# EAGLE library part IXP425 (library micro-intel)
Intel XScale® Core Source: ftp://download.intel.com/design/network/datashts/25247904.pdf
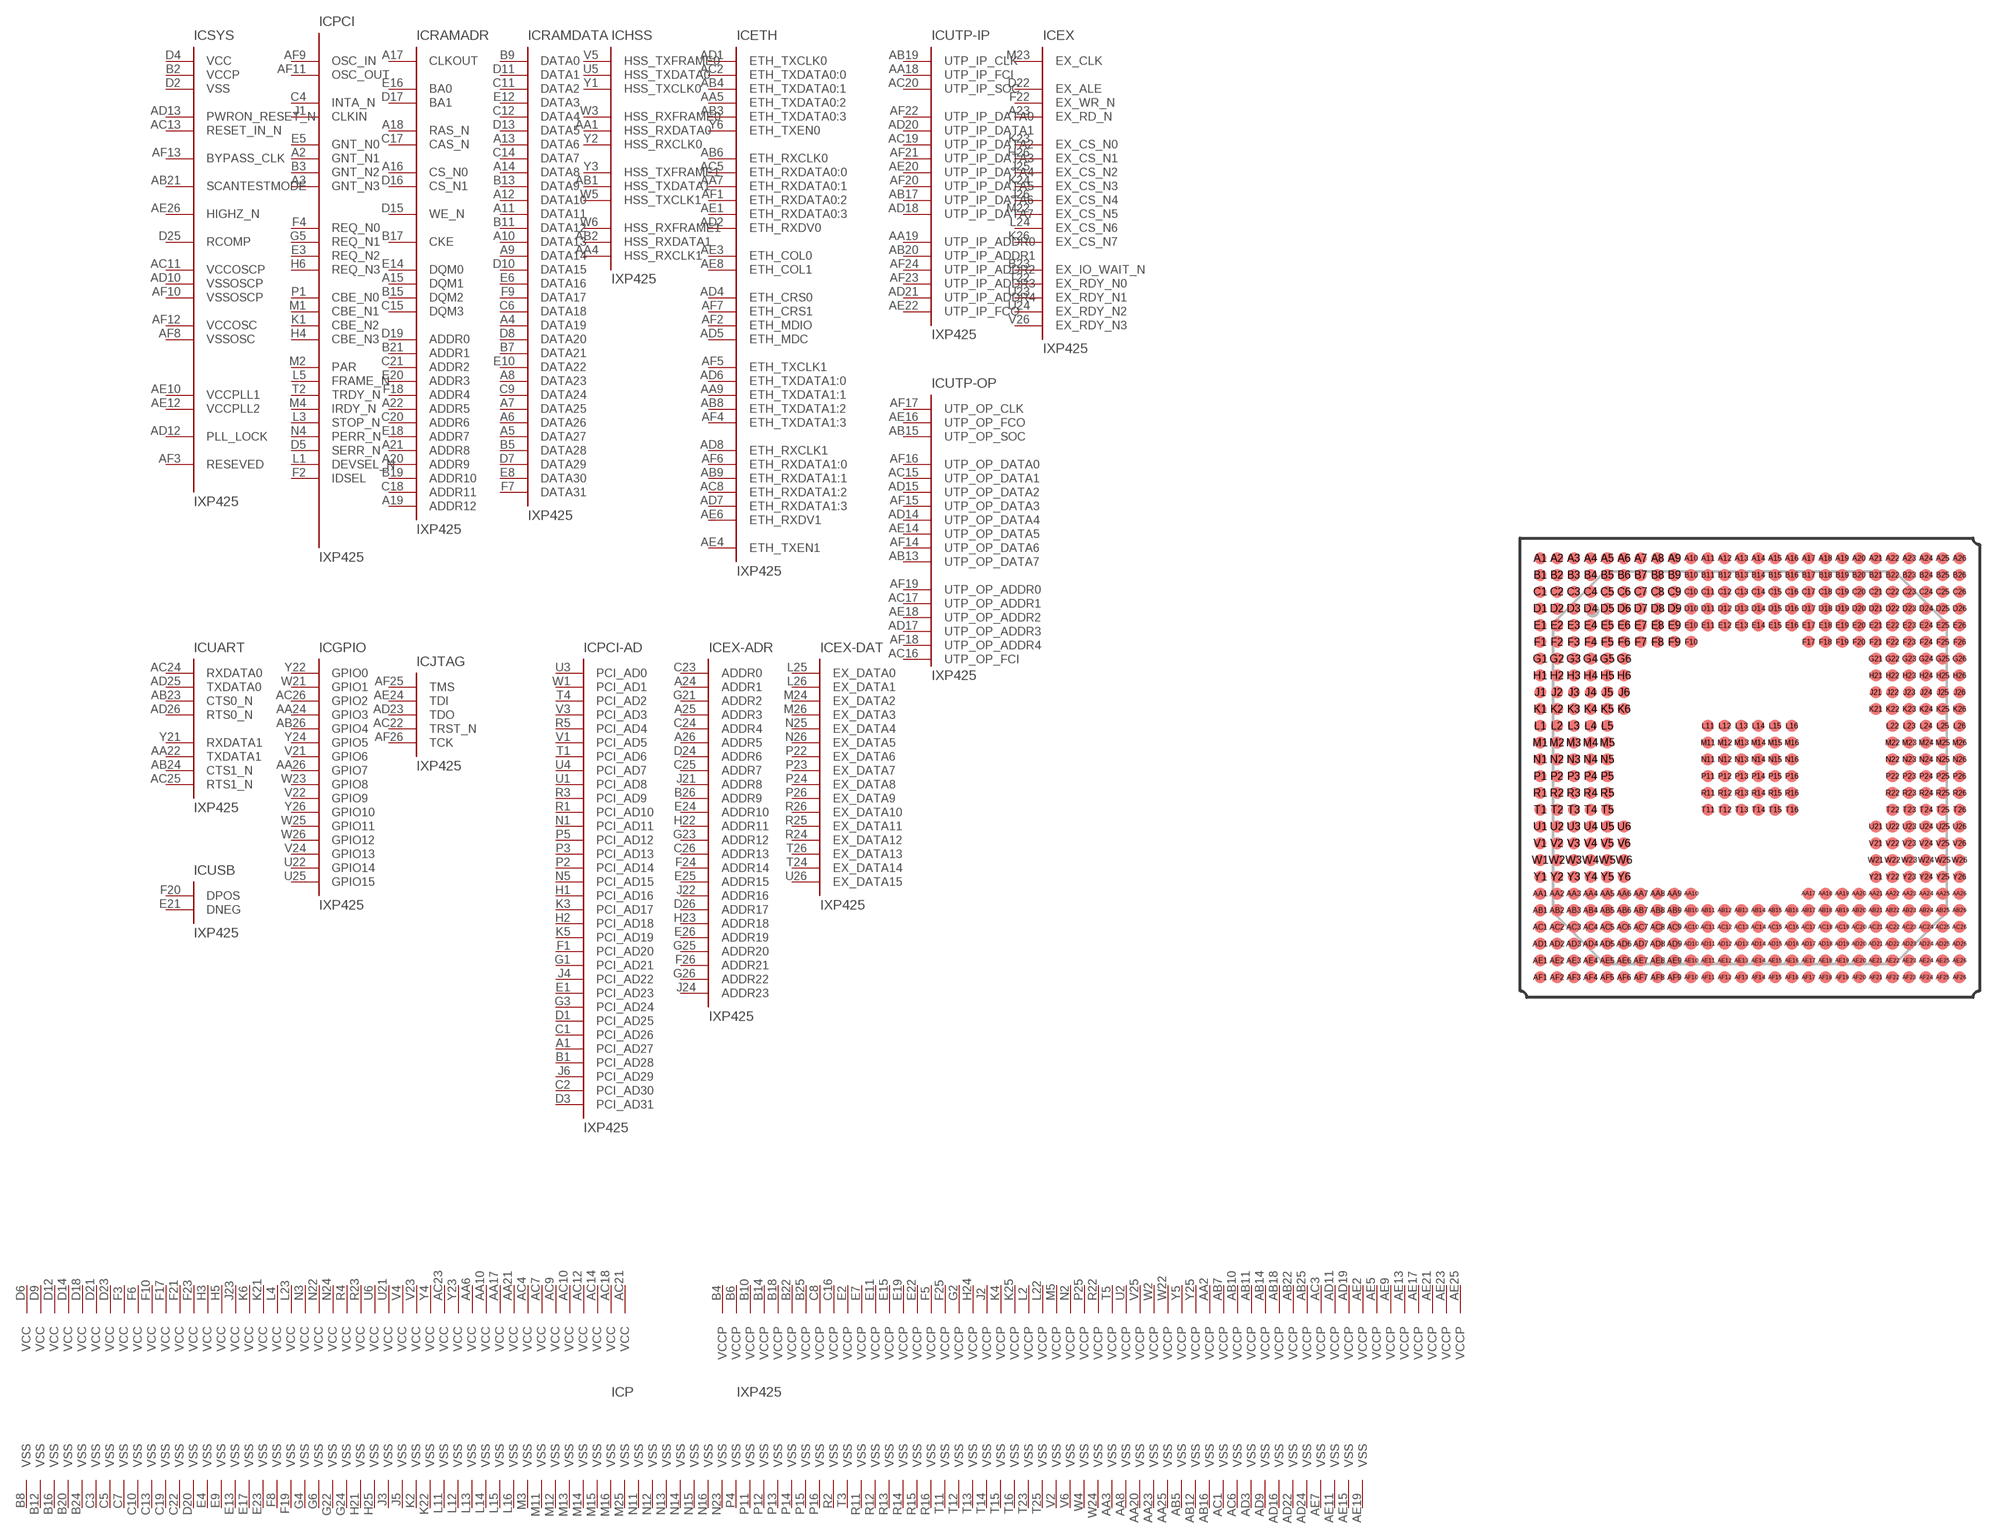
[diagram p70: symbol with the pads of PBGA492; footprint PBGA492]

Designator prefix IC; gates SYS=IXP-SYS PCI=IXP-PCI RAMADR=IXP-SDM-ADDR HSS=IXP-HSS ETH=IXP-ETH UTP-IP=IXP-UTP-IP UTP-OP=IXP-UTP-OP EX=IXP-EX UART=IXP-UART USB=IXP-USB GPIO=IXP-GPIO JTAG=IXP-JTAG PCI-AD=IXP-PCI-AD EX-ADR=IXP-EX-ADDR EX-DAT=IXP-EX-DATA RAMDATA=IXP-SDM-DATA P=IXP-PWR

## IXP425 (OC_FARNELL: unknown; OC_NEWARK: unknown)  [PBGA492]
A1  PCI-AD:PCI_AD27
A2  PCI:GNT_N1  out
A3  PCI:GNT_N3  out
A4  RAMDATA:DATA19
A5  RAMDATA:DATA27
A6  RAMDATA:DATA26
A7  RAMDATA:DATA25
A8  RAMDATA:DATA23
A9  RAMDATA:DATA14
A10  RAMDATA:DATA13
A11  RAMDATA:DATA11
A12  RAMDATA:DATA10
A13  RAMDATA:DATA6
A14  RAMDATA:DATA8
A15  RAMADR:DQM1
A16  RAMADR:CS_N0  out
A17  RAMADR:CLKOUT  out
A18  RAMADR:RAS_N  out
A19  RAMADR:ADDR12  out
A20  RAMADR:ADDR9  out
A21  RAMADR:ADDR8  out
A22  RAMADR:ADDR5  out
A23  EX:EX_RD_N  out
A24  EX-ADR:ADDR1
A25  EX-ADR:ADDR3
A26  EX-ADR:ADDR5
AA1  HSS:HSS_RXDATA0  in
AA2  P:VCCP  pwr
AA3  P:VSS  pwr
AA4  HSS:HSS_RXCLK1
AA5  ETH:ETH_TXDATA0:2  out
AA6  P:VCC  pwr
AA7  ETH:ETH_RXDATA0:1  in
AA8  P:VSS  pwr
AA9  ETH:ETH_TXDATA1:1  out
AA10  P:VCC  pwr
AA17  P:VCC  pwr
AA18  UTP-IP:UTP_IP_FCI  in
AA19  UTP-IP:UTP_IP_ADDR0  out
AA20  P:VSS  pwr
AA21  P:VCC  pwr
AA22  UART:TXDATA1  out
AA23  P:VSS  pwr
AA24  GPIO:GPIO3
AA25  P:VSS  pwr
AA26  GPIO:GPIO7
AB1  HSS:HSS_TXDATA1  out
AB2  HSS:HSS_RXDATA1  in
AB3  ETH:ETH_TXDATA0:3  out
AB4  ETH:ETH_TXDATA0:1  out
AB5  P:VSS  pwr
AB6  ETH:ETH_RXCLK0  in
AB7  P:VCCP  pwr
AB8  ETH:ETH_TXDATA1:2  out
AB9  ETH:ETH_RXDATA1:1  in
AB10  P:VCCP  pwr
AB11  P:VCCP  pwr
AB12  P:VSS  pwr
AB13  UTP-OP:UTP_OP_DATA7  out
AB14  P:VCCP  pwr
AB15  UTP-OP:UTP_OP_SOC  out
AB16  P:VSS  pwr
AB17  UTP-IP:UTP_IP_DATA6  in
AB18  P:VCCP  pwr
AB19  UTP-IP:UTP_IP_CLK  in
AB20  UTP-IP:UTP_IP_ADDR1  out
AB21  SYS:SCANTESTMODE  in
AB22  P:VCCP  pwr
AB23  UART:CTS0_N  in
AB24  UART:CTS1_N  in
AB25  P:VCCP  pwr
AB26  GPIO:GPIO4
AC1  P:VSS  pwr
AC2  ETH:ETH_TXDATA0:0  out
AC3  P:VCCP  pwr
AC4  P:VCC  pwr
AC5  ETH:ETH_RXDATA0:0  in
AC6  P:VSS  pwr
AC7  P:VCC  pwr
AC8  ETH:ETH_RXDATA1:2  in
AC9  P:VCC  pwr
AC10  P:VCC  pwr
AC11  SYS:VCCOSCP  pwr
AC12  P:VCC  pwr
AC13  SYS:RESET_IN_N  in
AC14  P:VCC  pwr
AC15  UTP-OP:UTP_OP_DATA1  out
AC16  UTP-OP:UTP_OP_FCI  in
AC17  UTP-OP:UTP_OP_ADDR1  out
AC18  P:VCC  pwr
AC19  UTP-IP:UTP_IP_DATA2  in
AC20  UTP-IP:UTP_IP_SOC  in
AC21  P:VCC  pwr
AC22  JTAG:TRST_N  in
AC23  P:VCC  pwr
AC24  UART:RXDATA0  in
AC25  UART:RTS1_N  out
AC26  GPIO:GPIO2
AD1  ETH:ETH_TXCLK0  in
AD2  ETH:ETH_RXDV0  in
AD3  P:VSS  pwr
AD4  ETH:ETH_CRS0  in
AD5  ETH:ETH_MDC  out
AD6  ETH:ETH_TXDATA1:0  out
AD7  ETH:ETH_RXDATA1:3  in
AD8  ETH:ETH_RXCLK1  in
AD9  P:VSS  pwr
AD10  SYS:VSSOSCP  pwr
AD11  P:VCCP  pwr
AD12  SYS:PLL_LOCK  out
AD13  SYS:PWRON_RESET_N  in
AD14  UTP-OP:UTP_OP_DATA4  out
AD15  UTP-OP:UTP_OP_DATA2  out
AD16  P:VSS  pwr
AD17  UTP-OP:UTP_OP_ADDR3  out
AD18  UTP-IP:UTP_IP_DATA7  in
AD19  P:VCCP  pwr
AD20  UTP-IP:UTP_IP_DATA1  in
AD21  UTP-IP:UTP_IP_ADDR4  out
AD22  P:VSS  pwr
AD23  JTAG:TDO  out
AD24  P:VSS  pwr
AD25  UART:TXDATA0  out
AD26  UART:RTS0_N  out
AE1  ETH:ETH_RXDATA0:3  in
AE2  P:VCCP  pwr
AE3  ETH:ETH_COL0
AE4  ETH:ETH_TXEN1
AE5  P:VCCP  pwr
AE6  ETH:ETH_RXDV1
AE7  P:VSS  pwr
AE8  ETH:ETH_COL1
AE9  P:VCCP  pwr
AE10  SYS:VCCPLL1  pwr
AE11  P:VSS  pwr
AE12  SYS:VCCPLL2  pwr
AE13  P:VCCP  pwr
AE14  UTP-OP:UTP_OP_DATA5  out
AE15  P:VSS  pwr
AE16  UTP-OP:UTP_OP_FCO  out
AE17  P:VCCP  pwr
AE18  UTP-OP:UTP_OP_ADDR2  out
AE19  P:VSS  pwr
AE20  UTP-IP:UTP_IP_DATA4  in
AE21  P:VCCP  pwr
AE22  UTP-IP:UTP_IP_FCO  out
AE23  P:VCCP  pwr
AE24  JTAG:TDI  in
AE25  P:VCCP  pwr
AE26  SYS:HIGHZ_N  in
AF1  ETH:ETH_RXDATA0:2  in
AF2  ETH:ETH_MDIO
AF3  SYS:RESEVED  nc
AF4  ETH:ETH_TXDATA1:3  out
AF5  ETH:ETH_TXCLK1  out
AF6  ETH:ETH_RXDATA1:0  in
AF7  ETH:ETH_CRS1  in
AF8  SYS:VSSOSC  pwr
AF9  PCI:OSC_IN  in
AF10  SYS:VSSOSCP  pwr
AF11  PCI:OSC_OUT  out
AF12  SYS:VCCOSC  pwr
AF13  SYS:BYPASS_CLK  in
AF14  UTP-OP:UTP_OP_DATA6  out
AF15  UTP-OP:UTP_OP_DATA3  out
AF16  UTP-OP:UTP_OP_DATA0  out
AF17  UTP-OP:UTP_OP_CLK  in
AF18  UTP-OP:UTP_OP_ADDR4  out
AF19  UTP-OP:UTP_OP_ADDR0  out
AF20  UTP-IP:UTP_IP_DATA5  in
AF21  UTP-IP:UTP_IP_DATA3  in
AF22  UTP-IP:UTP_IP_DATA0  in
AF23  UTP-IP:UTP_IP_ADDR3  out
AF24  UTP-IP:UTP_IP_ADDR2  out
AF25  JTAG:TMS  in
AF26  JTAG:TCK  in
B1  PCI-AD:PCI_AD28
B2  SYS:VCCP  pwr
B3  PCI:GNT_N2  out
B4  P:VCCP  pwr
B5  RAMDATA:DATA28
B6  P:VCCP  pwr
B7  RAMDATA:DATA21
B8  P:VSS  pwr
B9  RAMDATA:DATA0
B10  P:VCCP  pwr
B11  RAMDATA:DATA12
B12  P:VSS  pwr
B13  RAMDATA:DATA9
B14  P:VCCP  pwr
B15  RAMADR:DQM2
B16  P:VSS  pwr
B17  RAMADR:CKE  out
B18  P:VCCP  pwr
B19  RAMADR:ADDR10  out
B20  P:VSS  pwr
B21  RAMADR:ADDR1  out
B22  P:VCCP  pwr
B23  EX:EX_IO_WAIT_N  in
B24  P:VSS  pwr
B25  P:VCCP  pwr
B26  EX-ADR:ADDR9
C1  PCI-AD:PCI_AD26
C2  PCI-AD:PCI_AD30
C3  P:VSS  pwr
C4  PCI:INTA_N  out
C5  P:VSS  pwr
C6  RAMDATA:DATA18
C7  P:VSS  pwr
C8  P:VCCP  pwr
C9  RAMDATA:DATA24
C10  P:VSS  pwr
C11  RAMDATA:DATA2
C12  RAMDATA:DATA4
C13  P:VSS  pwr
C14  RAMDATA:DATA7
C15  RAMADR:DQM3
C16  P:VCCP  pwr
C17  RAMADR:CAS_N  out
C18  RAMADR:ADDR11  out
C19  P:VSS  pwr
C20  RAMADR:ADDR6  out
C21  RAMADR:ADDR2  out
C22  P:VSS  pwr
C23  EX-ADR:ADDR0
C24  EX-ADR:ADDR4
C25  EX-ADR:ADDR7
C26  EX-ADR:ADDR13
D1  PCI-AD:PCI_AD25
D2  SYS:VSS  pwr
D3  PCI-AD:PCI_AD31
D4  SYS:VCC  pwr
D5  PCI:SERR_N
D6  P:VCC  pwr
D7  RAMDATA:DATA29
D8  RAMDATA:DATA20
D9  P:VCC  pwr
D10  RAMDATA:DATA15
D11  RAMDATA:DATA1
D12  P:VCC  pwr
D13  RAMDATA:DATA5
D14  P:VCC  pwr
D15  RAMADR:WE_N  out
D16  RAMADR:CS_N1  out
D17  RAMADR:BA1  out
D18  P:VCC  pwr
D19  RAMADR:ADDR0  out
D20  P:VSS  pwr
D21  P:VCC  pwr
D22  EX:EX_ALE  out
D23  P:VCC  pwr
D24  EX-ADR:ADDR6
D25  SYS:RCOMP  in
D26  EX-ADR:ADDR17
E1  PCI-AD:PCI_AD23
E2  P:VCCP  pwr
E3  PCI:REQ_N2  in
E4  P:VSS  pwr
E5  PCI:GNT_N0
E6  RAMDATA:DATA16
E7  P:VCCP  pwr
E8  RAMDATA:DATA30
E9  P:VSS  pwr
E10  RAMDATA:DATA22
E11  P:VCCP  pwr
E12  RAMDATA:DATA3
E13  P:VSS  pwr
E14  RAMADR:DQM0
E15  P:VCCP  pwr
E16  RAMADR:BA0  out
E17  P:VSS  pwr
E18  RAMADR:ADDR7  out
E19  P:VCCP  pwr
E20  RAMADR:ADDR3  out
E21  USB:DNEG
E22  P:VCCP  pwr
E23  P:VSS  pwr
E24  EX-ADR:ADDR10
E25  EX-ADR:ADDR15
E26  EX-ADR:ADDR19
F1  PCI-AD:PCI_AD20
F2  PCI:IDSEL  in
F3  P:VCC  pwr
F4  PCI:REQ_N0
F5  P:VCCP  pwr
F6  P:VCC  pwr
F7  RAMDATA:DATA31
F8  P:VSS  pwr
F9  RAMDATA:DATA17
F10  P:VCC  pwr
F17  P:VCC  pwr
F18  RAMADR:ADDR4  out
F19  P:VSS  pwr
F20  USB:DPOS
F21  P:VCC  pwr
F22  EX:EX_WR_N  out
F23  P:VCC  pwr
F24  EX-ADR:ADDR14
F25  P:VCCP  pwr
F26  EX-ADR:ADDR21
G1  PCI-AD:PCI_AD21
G2  P:VCCP  pwr
G3  PCI-AD:PCI_AD24
G4  P:VSS  pwr
G5  PCI:REQ_N1  in
G6  P:VSS  pwr
G21  EX-ADR:ADDR2
G22  P:VSS  pwr
G23  EX-ADR:ADDR12
G24  P:VSS  pwr
G25  EX-ADR:ADDR20
G26  EX-ADR:ADDR22
H1  PCI-AD:PCI_AD16
H2  PCI-AD:PCI_AD18
H3  P:VCC  pwr
H4  PCI:CBE_N3
H5  P:VCC  pwr
H6  PCI:REQ_N3  in
H21  P:VSS  pwr
H22  EX-ADR:ADDR11
H23  EX-ADR:ADDR18
H24  P:VCCP  pwr
H25  P:VSS  pwr
H26  EX:EX_CS_N1  out
J1  PCI:CLKIN  in
J2  P:VCCP  pwr
J3  P:VSS  pwr
J4  PCI-AD:PCI_AD22
J5  P:VSS  pwr
J6  PCI-AD:PCI_AD29
J21  EX-ADR:ADDR8
J22  EX-ADR:ADDR16
J23  P:VCC  pwr
J24  EX-ADR:ADDR23
J25  EX:EX_CS_N2  out
J26  EX:EX_CS_N4  out
K1  PCI:CBE_N2
K2  P:VSS  pwr
K3  PCI-AD:PCI_AD17
K4  P:VCCP  pwr
K5  PCI-AD:PCI_AD19
K6  P:VCC  pwr
K21  P:VCC  pwr
K22  P:VSS  pwr
K23  EX:EX_CS_N0  out
K24  EX:EX_CS_N3  out
K25  P:VCCP  pwr
K26  EX:EX_CS_N7  out
L1  PCI:DEVSEL_N
L2  P:VCCP  pwr
L3  PCI:STOP_N
L4  P:VCC  pwr
L5  PCI:FRAME_N
L11  P:VSS  pwr
L12  P:VSS  pwr
L13  P:VSS  pwr
L14  P:VSS  pwr
L15  P:VSS  pwr
L16  P:VSS  pwr
L22  P:VCCP  pwr
L23  P:VCC  pwr
L24  EX:EX_CS_N6  out
L25  EX-DAT:EX_DATA0
L26  EX-DAT:EX_DATA1
M1  PCI:CBE_N1
M2  PCI:PAR
M3  P:VSS  pwr
M4  PCI:IRDY_N
M5  P:VCCP  pwr
M11  P:VSS  pwr
M12  P:VSS  pwr
M13  P:VSS  pwr
M14  P:VSS  pwr
M15  P:VSS  pwr
M16  P:VSS  pwr
M22  EX:EX_CS_N5  out
M23  EX:EX_CLK  in
M24  EX-DAT:EX_DATA2
M25  P:VSS  pwr
M26  EX-DAT:EX_DATA3
N1  PCI-AD:PCI_AD11
N2  P:VCCP  pwr
N3  P:VCC  pwr
N4  PCI:PERR_N
N5  PCI-AD:PCI_AD15
N11  P:VSS  pwr
N12  P:VSS  pwr
N13  P:VSS  pwr
N14  P:VSS  pwr
N15  P:VSS  pwr
N16  P:VSS  pwr
N22  P:VCC  pwr
N23  P:VSS  pwr
N24  P:VCC  pwr
N25  EX-DAT:EX_DATA4
N26  EX-DAT:EX_DATA5
P1  PCI:CBE_N0
P2  PCI-AD:PCI_AD14
P3  PCI-AD:PCI_AD13
P4  P:VSS  pwr
P5  PCI-AD:PCI_AD12
P11  P:VSS  pwr
P12  P:VSS  pwr
P13  P:VSS  pwr
P14  P:VSS  pwr
P15  P:VSS  pwr
P16  P:VSS  pwr
P22  EX-DAT:EX_DATA6
P23  EX-DAT:EX_DATA7
P24  EX-DAT:EX_DATA8
P25  P:VCCP  pwr
P26  EX-DAT:EX_DATA9
R1  PCI-AD:PCI_AD10
R2  P:VSS  pwr
R3  PCI-AD:PCI_AD9
R4  P:VCC  pwr
R5  PCI-AD:PCI_AD4
R11  P:VSS  pwr
R12  P:VSS  pwr
R13  P:VSS  pwr
R14  P:VSS  pwr
R15  P:VSS  pwr
R16  P:VSS  pwr
R22  P:VCCP  pwr
R23  P:VCC  pwr
R24  EX-DAT:EX_DATA12
R25  EX-DAT:EX_DATA11
R26  EX-DAT:EX_DATA10
T1  PCI-AD:PCI_AD6
T2  PCI:TRDY_N
T3  P:VSS  pwr
T4  PCI-AD:PCI_AD2
T5  P:VCCP  pwr
T11  P:VSS  pwr
T12  P:VSS  pwr
T13  P:VSS  pwr
T14  P:VSS  pwr
T15  P:VSS  pwr
T16  P:VSS  pwr
T22  EX:EX_RDY_N0  in
T23  P:VSS  pwr
T24  EX-DAT:EX_DATA14
T25  P:VSS  pwr
T26  EX-DAT:EX_DATA13
U1  PCI-AD:PCI_AD8
U2  P:VCCP  pwr
U3  PCI-AD:PCI_AD0
U4  PCI-AD:PCI_AD7
U5  HSS:HSS_TXDATA0  out
U6  P:VCC  pwr
U21  P:VCC  pwr
U22  GPIO:GPIO14
U23  EX:EX_RDY_N1  in
U24  EX:EX_RDY_N2  in
U25  GPIO:GPIO15
U26  EX-DAT:EX_DATA15
V1  PCI-AD:PCI_AD5
V2  P:VSS  pwr
V3  PCI-AD:PCI_AD3
V4  P:VCC  pwr
V5  HSS:HSS_TXFRAME0
V6  P:VSS  pwr
V21  GPIO:GPIO6
V22  GPIO:GPIO9
V23  P:VCC  pwr
V24  GPIO:GPIO13
V25  P:VCCP  pwr
V26  EX:EX_RDY_N3  in
W1  PCI-AD:PCI_AD1
W2  P:VCCP  pwr
W3  HSS:HSS_RXFRAME0
W4  P:VSS  pwr
W5  HSS:HSS_TXCLK1
W6  HSS:HSS_RXFRAME1
W21  GPIO:GPIO1
W22  P:VCCP  pwr
W23  GPIO:GPIO8
W24  P:VSS  pwr
W25  GPIO:GPIO11
W26  GPIO:GPIO12
Y1  HSS:HSS_TXCLK0
Y2  HSS:HSS_RXCLK0
Y3  HSS:HSS_TXFRAME1
Y4  P:VCC  pwr
Y5  P:VCCP  pwr
Y6  ETH:ETH_TXEN0  out
Y21  UART:RXDATA1  in
Y22  GPIO:GPIO0
Y23  P:VCC  pwr
Y24  GPIO:GPIO5
Y25  P:VCCP  pwr
Y26  GPIO:GPIO10

## Footprint PBGA492 (pad centres in mm)
492-Pin Lead PBGA (plastic ball grid array) Source: ftp://download.intel.com/design/network/datashts/25247904.pdf
smd 0.9 x 0.9: A1 -15.875,15.875; A2 -14.605,15.875; A3 -13.335,15.875; A4 -12.065,15.875; A5 -10.795,15.875; A6 -9.525,15.875; A7 -8.255,15.875; A8 -6.985,15.875; A9 -5.715,15.875; A10 -4.445,15.875; A11 -3.175,15.875; A12 -1.905,15.875; A13 -0.635,15.875; A14 0.635,15.875; A15 1.905,15.875; A16 3.175,15.875; A17 4.445,15.875; A18 5.715,15.875; A19 6.985,15.875; A20 8.255,15.875; A21 9.525,15.875; A22 10.795,15.875; A23 12.065,15.875; A24 13.335,15.875; A25 14.605,15.875; A26 15.875,15.875; AA1 -15.875,-9.525; AA2 -14.605,-9.525; AA3 -13.335,-9.525; AA4 -12.065,-9.525; AA5 -10.795,-9.525; AA6 -9.525,-9.525; AA7 -8.255,-9.525; AA8 -6.985,-9.525; AA9 -5.715,-9.525; AA10 -4.445,-9.525; AA17 4.445,-9.525; AA18 5.715,-9.525; AA19 6.985,-9.525; AA20 8.255,-9.525; AA21 9.525,-9.525; AA22 10.795,-9.525; AA23 12.065,-9.525; AA24 13.335,-9.525; AA25 14.605,-9.525; AA26 15.875,-9.525; AB1 -15.875,-10.795; AB2 -14.605,-10.795; AB3 -13.335,-10.795; AB4 -12.065,-10.795; AB5 -10.795,-10.795; AB6 -9.525,-10.795; AB7 -8.255,-10.795; AB8 -6.985,-10.795; AB9 -5.715,-10.795; AB10 -4.445,-10.795; AB11 -3.175,-10.795; AB12 -1.905,-10.795; AB13 -0.635,-10.795; AB14 0.635,-10.795; AB15 1.905,-10.795; AB16 3.175,-10.795; AB17 4.445,-10.795; AB18 5.715,-10.795; AB19 6.985,-10.795; AB20 8.255,-10.795; AB21 9.525,-10.795; AB22 10.795,-10.795; AB23 12.065,-10.795; AB24 13.335,-10.795; AB25 14.605,-10.795; AB26 15.875,-10.795; AC1 -15.875,-12.065; AC2 -14.605,-12.065; AC3 -13.335,-12.065; AC4 -12.065,-12.065; AC5 -10.795,-12.065; AC6 -9.525,-12.065; AC7 -8.255,-12.065; AC8 -6.985,-12.065; AC9 -5.715,-12.065; AC10 -4.445,-12.065; AC11 -3.175,-12.065; AC12 -1.905,-12.065; AC13 -0.635,-12.065; AC14 0.635,-12.065; AC15 1.905,-12.065; AC16 3.175,-12.065; AC17 4.445,-12.065; AC18 5.715,-12.065; AC19 6.985,-12.065; AC20 8.255,-12.065; AC21 9.525,-12.065; AC22 10.795,-12.065; AC23 12.065,-12.065; AC24 13.335,-12.065; AC25 14.605,-12.065; AC26 15.875,-12.065; AD1 -15.875,-13.335; AD2 -14.605,-13.335; AD3 -13.335,-13.335; AD4 -12.065,-13.335; AD5 -10.795,-13.335; AD6 -9.525,-13.335; AD7 -8.255,-13.335; AD8 -6.985,-13.335; AD9 -5.715,-13.335; AD10 -4.445,-13.335; AD11 -3.175,-13.335; AD12 -1.905,-13.335; AD13 -0.635,-13.335; AD14 0.635,-13.335; AD15 1.905,-13.335; AD16 3.175,-13.335; AD17 4.445,-13.335; AD18 5.715,-13.335; AD19 6.985,-13.335; AD20 8.255,-13.335; AD21 9.525,-13.335; AD22 10.795,-13.335; AD23 12.065,-13.335; AD24 13.335,-13.335; AD25 14.605,-13.335; AD26 15.875,-13.335; AE1 -15.875,-14.605; AE2 -14.605,-14.605; AE3 -13.335,-14.605; AE4 -12.065,-14.605; AE5 -10.795,-14.605; AE6 -9.525,-14.605; AE7 -8.255,-14.605; AE8 -6.985,-14.605; AE9 -5.715,-14.605; AE10 -4.445,-14.605; AE11 -3.175,-14.605; AE12 -1.905,-14.605; AE13 -0.635,-14.605; AE14 0.635,-14.605; AE15 1.905,-14.605; AE16 3.175,-14.605; AE17 4.445,-14.605; AE18 5.715,-14.605; AE19 6.985,-14.605; AE20 8.255,-14.605; AE21 9.525,-14.605; AE22 10.795,-14.605; AE23 12.065,-14.605; AE24 13.335,-14.605; AE25 14.605,-14.605; AE26 15.875,-14.605; AF1 -15.875,-15.875; AF2 -14.605,-15.875; AF3 -13.335,-15.875; AF4 -12.065,-15.875; AF5 -10.795,-15.875; AF6 -9.525,-15.875; AF7 -8.255,-15.875; AF8 -6.985,-15.875; AF9 -5.715,-15.875; AF10 -4.445,-15.875; AF11 -3.175,-15.875; AF12 -1.905,-15.875; AF13 -0.635,-15.875; AF14 0.635,-15.875; AF15 1.905,-15.875; AF16 3.175,-15.875; AF17 4.445,-15.875; AF18 5.715,-15.875; AF19 6.985,-15.875; AF20 8.255,-15.875; AF21 9.525,-15.875; AF22 10.795,-15.875; AF23 12.065,-15.875; AF24 13.335,-15.875; AF25 14.605,-15.875; AF26 15.875,-15.875; B1 -15.875,14.605; B2 -14.605,14.605; B3 -13.335,14.605; B4 -12.065,14.605; B5 -10.795,14.605; B6 -9.525,14.605; B7 -8.255,14.605; B8 -6.985,14.605; B9 -5.715,14.605; B10 -4.445,14.605; B11 -3.175,14.605; B12 -1.905,14.605; B13 -0.635,14.605; B14 0.635,14.605; B15 1.905,14.605; B16 3.175,14.605; B17 4.445,14.605; B18 5.715,14.605; B19 6.985,14.605; B20 8.255,14.605; B21 9.525,14.605; B22 10.795,14.605; B23 12.065,14.605; B24 13.335,14.605; B25 14.605,14.605; B26 15.875,14.605; C1 -15.875,13.335; C2 -14.605,13.335; C3 -13.335,13.335; C4 -12.065,13.335; C5 -10.795,13.335; C6 -9.525,13.335; C7 -8.255,13.335; C8 -6.985,13.335; C9 -5.715,13.335; C10 -4.445,13.335; C11 -3.175,13.335; C12 -1.905,13.335; C13 -0.635,13.335; C14 0.635,13.335; C15 1.905,13.335; C16 3.175,13.335; C17 4.445,13.335; C18 5.715,13.335; C19 6.985,13.335; C20 8.255,13.335; C21 9.525,13.335; C22 10.795,13.335; C23 12.065,13.335; C24 13.335,13.335; C25 14.605,13.335; C26 15.875,13.335; D1 -15.875,12.065; D2 -14.605,12.065; D3 -13.335,12.065; D4 -12.065,12.065; D5 -10.795,12.065; D6 -9.525,12.065; D7 -8.255,12.065; D8 -6.985,12.065; D9 -5.715,12.065; D10 -4.445,12.065; D11 -3.175,12.065; D12 -1.905,12.065; D13 -0.635,12.065; D14 0.635,12.065; D15 1.905,12.065; D16 3.175,12.065; D17 4.445,12.065; D18 5.715,12.065; D19 6.985,12.065; D20 8.255,12.065; D21 9.525,12.065; D22 10.795,12.065; D23 12.065,12.065; D24 13.335,12.065; D25 14.605,12.065; D26 15.875,12.065; E1 -15.875,10.795; E2 -14.605,10.795; E3 -13.335,10.795; E4 -12.065,10.795; E5 -10.795,10.795; E6 -9.525,10.795; E7 -8.255,10.795; E8 -6.985,10.795; E9 -5.715,10.795; E10 -4.445,10.795; E11 -3.175,10.795; E12 -1.905,10.795; E13 -0.635,10.795; E14 0.635,10.795; E15 1.905,10.795; E16 3.175,10.795; E17 4.445,10.795; E18 5.715,10.795; E19 6.985,10.795; E20 8.255,10.795; E21 9.525,10.795; E22 10.795,10.795; E23 12.065,10.795; E24 13.335,10.795; E25 14.605,10.795; E26 15.875,10.795; F1 -15.875,9.525; F2 -14.605,9.525; F3 -13.335,9.525; F4 -12.065,9.525; F5 -10.795,9.525; F6 -9.525,9.525; F7 -8.255,9.525; F8 -6.985,9.525; F9 -5.715,9.525; F10 -4.445,9.525; F17 4.445,9.525; F18 5.715,9.525; F19 6.985,9.525; F20 8.255,9.525; F21 9.525,9.525; F22 10.795,9.525; F23 12.065,9.525; F24 13.335,9.525; F25 14.605,9.525; F26 15.875,9.525; G1 -15.875,8.255; G2 -14.605,8.255; G3 -13.335,8.255; G4 -12.065,8.255; G5 -10.795,8.255; G6 -9.525,8.255; G21 9.525,8.255; G22 10.795,8.255; G23 12.065,8.255; G24 13.335,8.255; G25 14.605,8.255; G26 15.875,8.255; H1 -15.875,6.985; H2 -14.605,6.985; H3 -13.335,6.985; H4 -12.065,6.985; H5 -10.795,6.985; H6 -9.525,6.985; H21 9.525,6.985; H22 10.795,6.985; H23 12.065,6.985; H24 13.335,6.985; H25 14.605,6.985; H26 15.875,6.985; J1 -15.875,5.715; J2 -14.605,5.715; J3 -13.335,5.715; J4 -12.065,5.715; J5 -10.795,5.715; J6 -9.525,5.715; J21 9.525,5.715; J22 10.795,5.715; J23 12.065,5.715; J24 13.335,5.715; J25 14.605,5.715; J26 15.875,5.715; K1 -15.875,4.445; K2 -14.605,4.445; K3 -13.335,4.445; K4 -12.065,4.445; K5 -10.795,4.445; K6 -9.525,4.445; K21 9.525,4.445; K22 10.795,4.445; K23 12.065,4.445; K24 13.335,4.445; K25 14.605,4.445; K26 15.875,4.445; L1 -15.875,3.175; L2 -14.605,3.175; L3 -13.335,3.175; L4 -12.065,3.175; L5 -10.795,3.175; L11 -3.175,3.175; L12 -1.905,3.175; L13 -0.635,3.175; L14 0.635,3.175; L15 1.905,3.175; L16 3.175,3.175; L22 10.795,3.175; L23 12.065,3.175; L24 13.335,3.175; L25 14.605,3.175; L26 15.875,3.175; M1 -15.875,1.905; M2 -14.605,1.905; M3 -13.335,1.905; M4 -12.065,1.905; M5 -10.795,1.905; M11 -3.175,1.905; M12 -1.905,1.905; M13 -0.635,1.905; M14 0.635,1.905; M15 1.905,1.905; M16 3.175,1.905; M22 10.795,1.905; M23 12.065,1.905; M24 13.335,1.905; M25 14.605,1.905; M26 15.875,1.905; N1 -15.875,0.635; N2 -14.605,0.635; N3 -13.335,0.635; N4 -12.065,0.635; N5 -10.795,0.635; N11 -3.175,0.635; N12 -1.905,0.635; N13 -0.635,0.635; N14 0.635,0.635; N15 1.905,0.635; N16 3.175,0.635; N22 10.795,0.635; N23 12.065,0.635; N24 13.335,0.635; N25 14.605,0.635; N26 15.875,0.635; P1 -15.875,-0.635; P2 -14.605,-0.635; P3 -13.335,-0.635; P4 -12.065,-0.635; P5 -10.795,-0.635; P11 -3.175,-0.635; P12 -1.905,-0.635; P13 -0.635,-0.635; P14 0.635,-0.635; P15 1.905,-0.635; P16 3.175,-0.635; P22 10.795,-0.635; P23 12.065,-0.635; P24 13.335,-0.635; P25 14.605,-0.635; P26 15.875,-0.635; R1 -15.875,-1.905; R2 -14.605,-1.905; R3 -13.335,-1.905; R4 -12.065,-1.905; R5 -10.795,-1.905; R11 -3.175,-1.905; R12 -1.905,-1.905; R13 -0.635,-1.905; R14 0.635,-1.905; R15 1.905,-1.905; R16 3.175,-1.905; R22 10.795,-1.905; R23 12.065,-1.905; R24 13.335,-1.905; R25 14.605,-1.905; R26 15.875,-1.905; T1 -15.875,-3.175; T2 -14.605,-3.175; T3 -13.335,-3.175; T4 -12.065,-3.175; T5 -10.795,-3.175; T11 -3.175,-3.175; T12 -1.905,-3.175; T13 -0.635,-3.175; T14 0.635,-3.175; T15 1.905,-3.175; T16 3.175,-3.175; T22 10.795,-3.175; T23 12.065,-3.175; T24 13.335,-3.175; T25 14.605,-3.175; T26 15.875,-3.175; U1 -15.875,-4.445; U2 -14.605,-4.445; U3 -13.335,-4.445; U4 -12.065,-4.445; U5 -10.795,-4.445; U6 -9.525,-4.445; U21 9.525,-4.445; U22 10.795,-4.445; U23 12.065,-4.445; U24 13.335,-4.445; U25 14.605,-4.445; U26 15.875,-4.445; V1 -15.875,-5.715; V2 -14.605,-5.715; V3 -13.335,-5.715; V4 -12.065,-5.715; V5 -10.795,-5.715; V6 -9.525,-5.715; V21 9.525,-5.715; V22 10.795,-5.715; V23 12.065,-5.715; V24 13.335,-5.715; V25 14.605,-5.715; V26 15.875,-5.715; W1 -15.875,-6.985; W2 -14.605,-6.985; W3 -13.335,-6.985; W4 -12.065,-6.985; W5 -10.795,-6.985; W6 -9.525,-6.985; W21 9.525,-6.985; W22 10.795,-6.985; W23 12.065,-6.985; W24 13.335,-6.985; W25 14.605,-6.985; W26 15.875,-6.985; Y1 -15.875,-8.255; Y2 -14.605,-8.255; Y3 -13.335,-8.255; Y4 -12.065,-8.255; Y5 -10.795,-8.255; Y6 -9.525,-8.255; Y21 9.525,-8.255; Y22 10.795,-8.255; Y23 12.065,-8.255; Y24 13.335,-8.255; Y25 14.605,-8.255; Y26 15.875,-8.255